# Altium schematic symbol library MAX976ESA&plus_.SchLib: 2 symbols
Pins are listed as number, name and electrical type; pins without a type are passive.

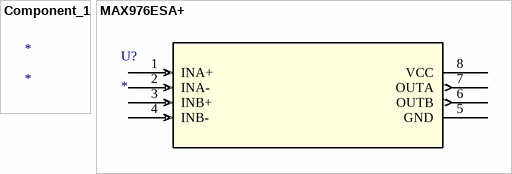
[diagram p0: symbols Component_1 to MAX976ESA+]

## Component_1
designator *

## MAX976ESA+
designator U?
No Description Available; Mfr_Name: Analog Devices / Maxim Integrated; RefDes: RefDes; Type: Type
footprint 21-0041B_8_MXM
pins: 1 INA+ (in), 2 INA- (in), 3 INB+ (in), 4 INB- (in), 5 GND (power), 6 OUTB (out), 7 OUTA (out), 8 VCC (power)